# Altium integrated library Linear Technology Power Management Supercapacitor Chargers.IntLib: 96 symbols (part 6 of 8)
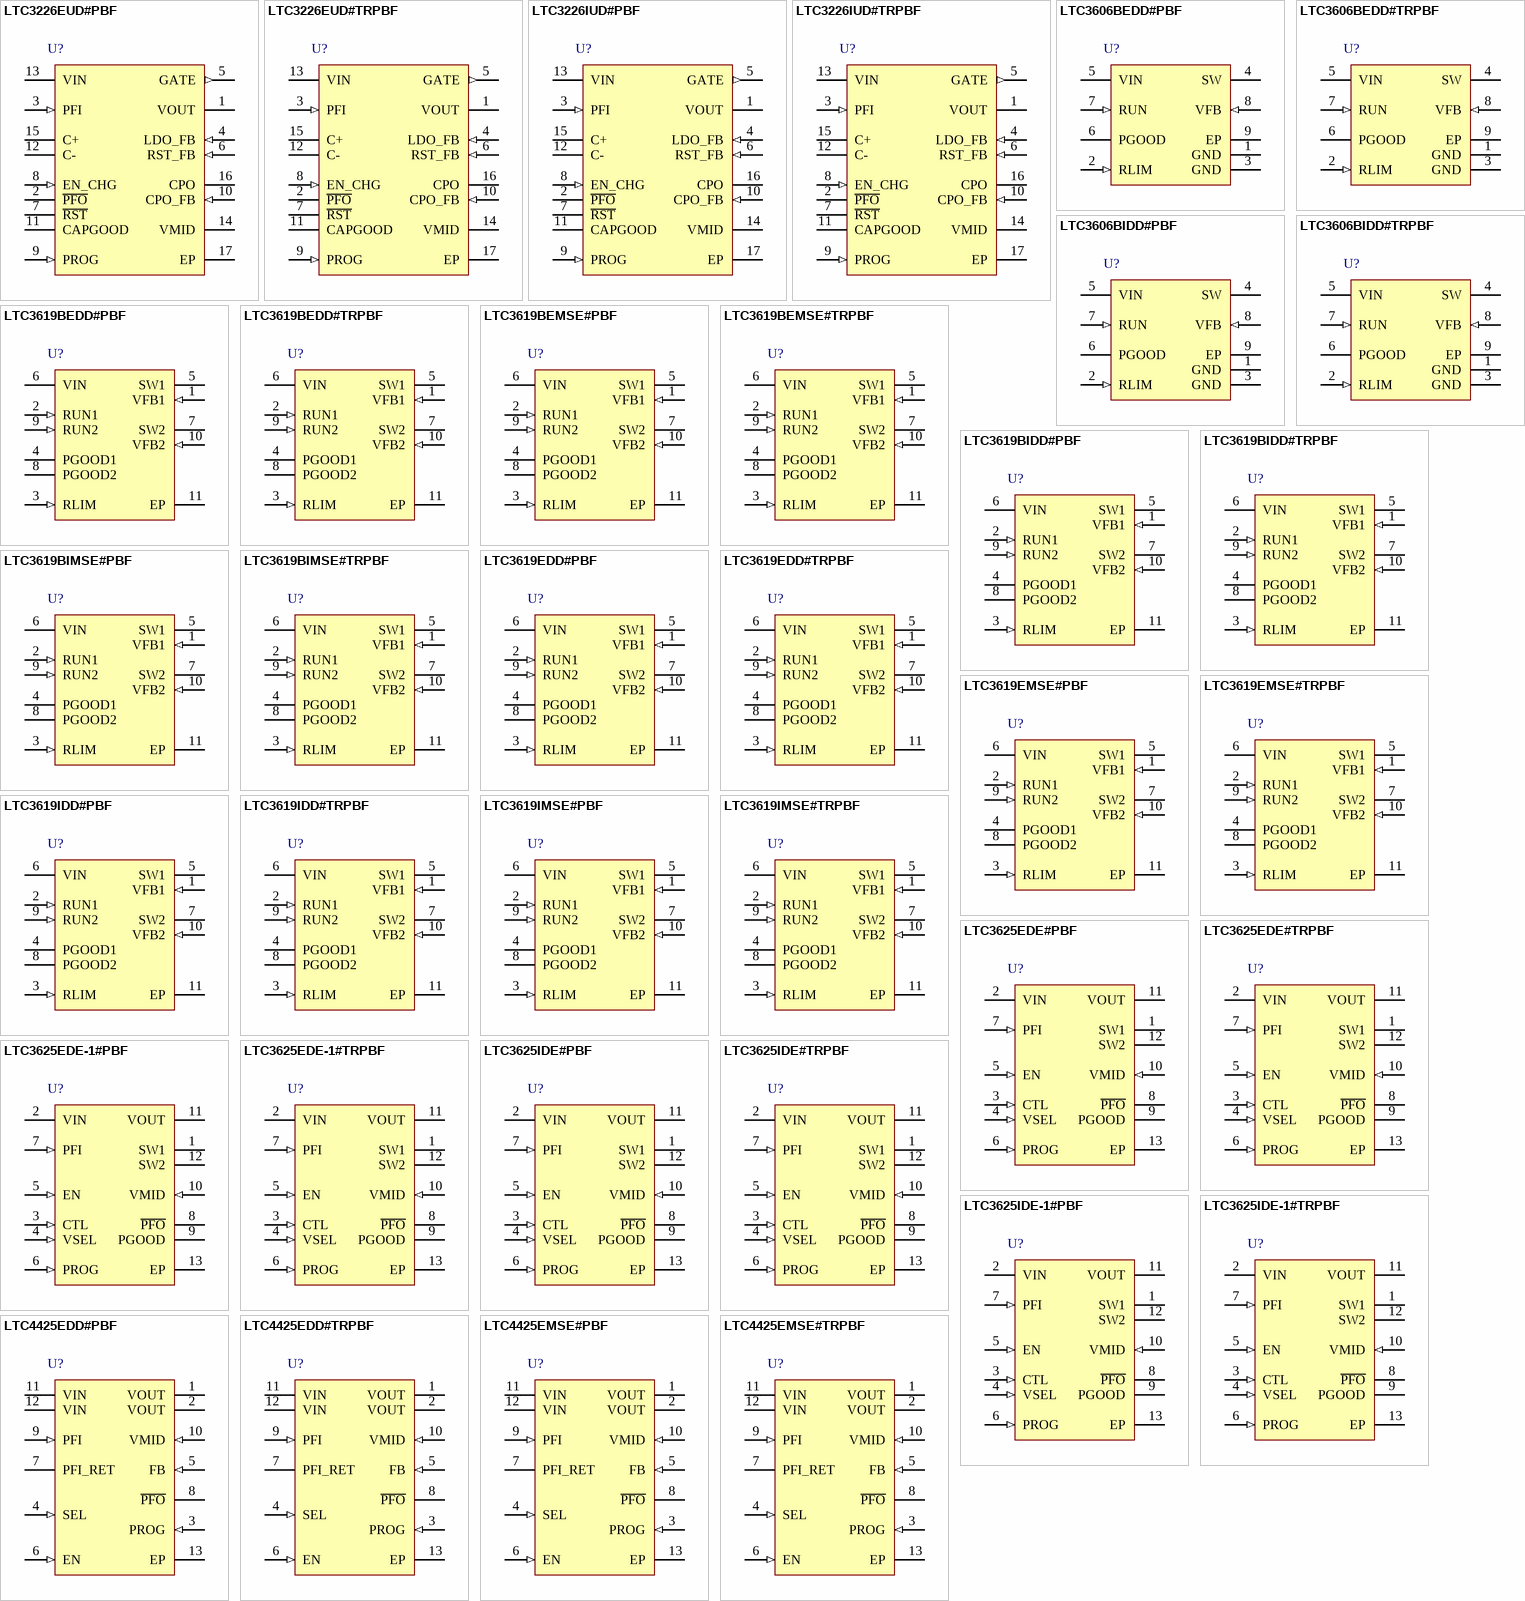
[diagram p8: symbols LTC3226EUD#PBF to LTC4425EMSE#TRPBF]

## LTC3606BIDD#TRPBF
designator U?
800 mA Synchronous Step-Down DC/DC with Average Input Current Limit, 2.5 to 5.5 V Vin, 5 V Vout MAX, 8-pin SON (DD-8), -40 to 125 degC, Pb-Free, Tape and Reel; Manufacturer: Linear Technology; PartNumber: LTC3606BIDD#TRPBF; Output Current(A): 0.8; Topology: Buck; DatasheetVersion: Rev. B; PackageVersion: Jun-10; PackageReference: DD-8; PackageDescription: 8-Pin Plastic DFN, Body 3 x 3 mm, Pitch 0.5 mm; Supplier 1: Digi-Key; Supplier Part Number 1: LTC3606BIDD#TRPBF-ND; Packing: Tape and Reel; RoHS: TRUE; Mounting Technology: Surface Mount; Code_JEDEC: MO-229; ComponentLink1Description: Manufacturer URL; ComponentLink1URL: http://www.linear.com/; ComponentLink2Description: Datasheet; ComponentLink2URL: http://cds.linear.com/docs/en/datasheet/3606bfb.pdf; ComponentLink3Description: Package Specification; ComponentLink3URL: http://cds.linear.com/docs/en/packaging/DFN_8_05-08-1698.pdf
footprint LT-DD-8_V (SON, 8-Leads, Body 3x3mm, Pitch 0.5mm, Thermal Pad 1.65x2.38 mm)
pins: 1 GND (power) "Ground. Connect to the (-) terminal of COUT, and the (-) terminal of CIN. The Exposed Pad must be soldered to PCB.", 2 RLIM (in) "Average Input Current Limit Program Pin. Place a resistor and capacitor in parallel from this pin to ground.", 3 GND (power) "Ground. Connect to the (-) terminal of COUT, and the (-) terminal of CIN. The Exposed Pad must be soldered to PCB.", 4 SW (power) "Regulator Switch Node Connection to the Inductor. This pin swings from VIN to GND.", 5 VIN (power) "Main Power Supply. Must be closely decoupled to GND.", 6 PGOOD (oc) "Open-Drain Logic Output. PGOOD is pulled to ground if the voltage on the VFB pin is not within power good threshold.", 7 RUN (in) "Regulator Enable. Forcing this pin to VIN enables regulator, while forcing it to GND causes regulator to shut down.", 8 VFB (in) "Regulator Output Feedback. Receives the feedback voltage from the external resistive divider across the regulator output. Nominal voltage for this pin is 0.6V.", 9 EP (power) "Ground. Connect to the (-) terminal of COUT, and the (-) terminal of CIN. The Exposed Pad must be soldered to PCB."

## LTC3619BEDD#PBF
designator U?
400 mA / 800 mA Synchronous Step-Down DC/DC with Average Input Current Limit, 2.5 to 5.5 V Vin, 5 V Vout MAX, 10-pin SON (DD-10), -40 to 125 degC, Pb-Free; Manufacturer: Linear Technology; PartNumber: LTC3619BEDD#PBF; Output Current(A): 0.4 or 0.8; Topology: Buck; DatasheetVersion: Rev. B; PackageVersion: Rev. C, 06/2010; PackageReference: DD-10; PackageDescription: 10-Pin Plastic DFN, Body 3 x 3 mm, Pitch 0.5 mm; Supplier 1: Digi-Key; Supplier Part Number 1: LTC3619BEDD#PBF-ND; Supplier 2: Farnell; Supplier Part Number 2: 1839256; Supplier 3: Newark; Supplier Part Number 3: 51R1509; RoHS: TRUE; Mounting Technology: Surface Mount; Code_JEDEC: MO-229; ComponentLink1Description: Manufacturer URL; ComponentLink1URL: http://www.linear.com/; ComponentLink2Description: Datasheet; ComponentLink2URL: http://cds.linear.com/docs/en/datasheet/3619bfb.pdf; ComponentLink3Description: Package Specification; ComponentLink3URL: http://cds.linear.com/docs/en/packaging/DFN_10_05-08-1699.pdf
footprint LT-DD-10_V (SON, 10-Leads, Body 3x3mm, Pitch 0.5mm, Thermal Pad 2.38x1.65mm)
pins: 1 VFB1 (in) "Regulator 1 Output Feedback. Receives the feedback voltage from the external resistive divider across the regulator 1 output. Nominal voltage for this pin is 0.6V.", 2 RUN1 (in) "Regulator 1 Enable. Forcing this pin to VIN enables regulator 1, while forcing it to GND causes regulator 1 to shut down.", 3 RLIM (in) "Average Input Current Limit Program Pin. Place a resistor and capacitor in parallel from this pin to ground.", 4 PGOOD1 (oc) "Open-Drain Logic Output. PGOOD1 is pulled to ground the voltage on the VFB1 pin is not within power good threshold.", 5 SW1 (power) "Regulator 1 Switch Node Connection to the Inductor. This pin swings from VIN to GND.", 6 VIN (power) "Main Power Supply. Must be closely de-coupled to GND.", 7 SW2 (power) "Regulator 2 Switch Node Connection to the Inductor. This pin swings from VIN to GND.", 8 PGOOD2 (oc) "Open-Drain Logic Output. PGOOD2 is pulled to ground the voltage on the VFB2 pin is not within power good threshold.", 9 RUN2 (in) "Regulator 2 Enable. Forcing this pin to VIN enables regulator 2, while forcing it to GND causes regulator 2 to shut down.", 10 VFB2 (in) "Regulator 2 Output Feedback. Receives the feedback voltage from the external resistive divider across the regulator 2 output. Nominal voltage for this pin is 0.6V.", 11 EP (power) "Ground. Bottom Exposed Pad. Connect to the (-) terminal of COUT, and the (-) terminal of CIN. The Exposed Pad must be soldered to PCB."

## LTC3619BEDD#TRPBF
designator U?
400 mA / 800 mA Synchronous Step-Down DC/DC with Average Input Current Limit, 2.5 to 5.5 V Vin, 5 V Vout MAX, 10-pin SON (DD-10), -40 to 125 degC, Pb-Free, Tape and Reel; Manufacturer: Linear Technology; PartNumber: LTC3619BEDD#TRPBF; Output Current(A): 0.4 or 0.8; Topology: Buck; DatasheetVersion: Rev. B; PackageVersion: Rev. C, 06/2010; PackageReference: DD-10; PackageDescription: 10-Pin Plastic DFN, Body 3 x 3 mm, Pitch 0.5 mm; Supplier 1: Digi-Key; Supplier Part Number 1: LTC3619BEDD#TRPBF-ND; Packing: Tape and Reel; RoHS: TRUE; Mounting Technology: Surface Mount; Code_JEDEC: MO-229; ComponentLink1Description: Manufacturer URL; ComponentLink1URL: http://www.linear.com/; ComponentLink2Description: Datasheet; ComponentLink2URL: http://cds.linear.com/docs/en/datasheet/3619bfb.pdf; ComponentLink3Description: Package Specification; ComponentLink3URL: http://cds.linear.com/docs/en/packaging/DFN_10_05-08-1699.pdf
footprint LT-DD-10_V (SON, 10-Leads, Body 3x3mm, Pitch 0.5mm, Thermal Pad 2.38x1.65mm)
pins: 1 VFB1 (in) "Regulator 1 Output Feedback. Receives the feedback voltage from the external resistive divider across the regulator 1 output. Nominal voltage for this pin is 0.6V.", 2 RUN1 (in) "Regulator 1 Enable. Forcing this pin to VIN enables regulator 1, while forcing it to GND causes regulator 1 to shut down.", 3 RLIM (in) "Average Input Current Limit Program Pin. Place a resistor and capacitor in parallel from this pin to ground.", 4 PGOOD1 (oc) "Open-Drain Logic Output. PGOOD1 is pulled to ground the voltage on the VFB1 pin is not within power good threshold.", 5 SW1 (power) "Regulator 1 Switch Node Connection to the Inductor. This pin swings from VIN to GND.", 6 VIN (power) "Main Power Supply. Must be closely de-coupled to GND.", 7 SW2 (power) "Regulator 2 Switch Node Connection to the Inductor. This pin swings from VIN to GND.", 8 PGOOD2 (oc) "Open-Drain Logic Output. PGOOD2 is pulled to ground the voltage on the VFB2 pin is not within power good threshold.", 9 RUN2 (in) "Regulator 2 Enable. Forcing this pin to VIN enables regulator 2, while forcing it to GND causes regulator 2 to shut down.", 10 VFB2 (in) "Regulator 2 Output Feedback. Receives the feedback voltage from the external resistive divider across the regulator 2 output. Nominal voltage for this pin is 0.6V.", 11 EP (power) "Ground. Bottom Exposed Pad. Connect to the (-) terminal of COUT, and the (-) terminal of CIN. The Exposed Pad must be soldered to PCB."

## LTC3619BEMSE#PBF
designator U?
400 mA / 800 mA Synchronous Step-Down DC/DC with Average Input Current Limit, 2.5 to 5.5 V Vin, 5 V Vout MAX, 10-pin SOP (MSE-10-EDP), -40 to 125 degC, Pb-Free; Manufacturer: Linear Technology; PartNumber: LTC3619BEMSE#PBF; Output Current(A): 0.4 or 0.8; Topology: Buck; DatasheetVersion: Rev. B; PackageVersion: Rev. I, 05/2013; PackageReference: MSE-10; PackageDescription: 10-Pin Plastic MSOP, Exposed Die Pad, Body 3 x 3 mm, Pitch 0.5 mm; Supplier 1: Digi-Key; Supplier Part Number 1: LTC3619BEMSE#PBF-ND; RoHS: TRUE; Mounting Technology: Surface Mount; ComponentLink1Description: Manufacturer URL; ComponentLink1URL: http://www.linear.com/; ComponentLink2Description: Datasheet; ComponentLink2URL: http://cds.linear.com/docs/en/datasheet/3619bfb.pdf; ComponentLink3Description: Package Specification; ComponentLink3URL: http://cds.linear.com/docs/en/packaging/05081664_I_MSE.pdf
footprint LT-MSE-10-EDP_N (SOP, 10-Leads, Body 3.1x3.1mm, Pitch 0.5mm, Thermal Pad 1.88x1.68mm, IPC Medium Density)
footprint LT-MSE-10-EDP_L (SOP, 10-Leads, Body 3.1x3.1mm, Pitch 0.5mm, Thermal Pad 1.88x1.68mm, IPC High Density)
footprint LT-MSE-10-EDP_M (SOP, 10-Leads, Body 3.1x3.1mm, Pitch 0.5mm, Thermal Pad 1.88x1.68mm, IPC Low Density)
pins: 1 VFB1 (in) "Regulator 1 Output Feedback. Receives the feedback voltage from the external resistive divider across the regulator 1 output. Nominal voltage for this pin is 0.6V.", 2 RUN1 (in) "Regulator 1 Enable. Forcing this pin to VIN enables regulator 1, while forcing it to GND causes regulator 1 to shut down.", 3 RLIM (in) "Average Input Current Limit Program Pin. Place a resistor and capacitor in parallel from this pin to ground.", 4 PGOOD1 (oc) "Open-Drain Logic Output. PGOOD1 is pulled to ground the voltage on the VFB1 pin is not within power good threshold.", 5 SW1 (power) "Regulator 1 Switch Node Connection to the Inductor. This pin swings from VIN to GND.", 6 VIN (power) "Main Power Supply. Must be closely de-coupled to GND.", 7 SW2 (power) "Regulator 2 Switch Node Connection to the Inductor. This pin swings from VIN to GND.", 8 PGOOD2 (oc) "Open-Drain Logic Output. PGOOD2 is pulled to ground the voltage on the VFB2 pin is not within power good threshold.", 9 RUN2 (in) "Regulator 2 Enable. Forcing this pin to VIN enables regulator 2, while forcing it to GND causes regulator 2 to shut down.", 10 VFB2 (in) "Regulator 2 Output Feedback. Receives the feedback voltage from the external resistive divider across the regulator 2 output. Nominal voltage for this pin is 0.6V.", 11 EP (power) "Ground. Bottom Exposed Pad. Connect to the (-) terminal of COUT, and the (-) terminal of CIN. The Exposed Pad must be soldered to PCB."

## LTC3619BEMSE#TRPBF
designator U?
400 mA / 800 mA Synchronous Step-Down DC/DC with Average Input Current Limit, 2.5 to 5.5 V Vin, 5 V Vout MAX, 10-pin SOP (MSE-10-EDP), -40 to 125 degC, Pb-Free, Tape and Reel; Manufacturer: Linear Technology; PartNumber: LTC3619BEMSE#TRPBF; Output Current(A): 0.4 or 0.8; Topology: Buck; DatasheetVersion: Rev. B; PackageVersion: Rev. I, 05/2013; PackageReference: MSE-10; PackageDescription: 10-Pin Plastic MSOP, Exposed Die Pad, Body 3 x 3 mm, Pitch 0.5 mm; Supplier 1: Digi-Key; Supplier Part Number 1: LTC3619BEMSE#TRPBF-ND; Packing: Tape and Reel; RoHS: TRUE; Mounting Technology: Surface Mount; ComponentLink1Description: Manufacturer URL; ComponentLink1URL: http://www.linear.com/; ComponentLink2Description: Datasheet; ComponentLink2URL: http://cds.linear.com/docs/en/datasheet/3619bfb.pdf; ComponentLink3Description: Package Specification; ComponentLink3URL: http://cds.linear.com/docs/en/packaging/05081664_I_MSE.pdf
footprint LT-MSE-10-EDP_N (SOP, 10-Leads, Body 3.1x3.1mm, Pitch 0.5mm, Thermal Pad 1.88x1.68mm, IPC Medium Density)
footprint LT-MSE-10-EDP_L (SOP, 10-Leads, Body 3.1x3.1mm, Pitch 0.5mm, Thermal Pad 1.88x1.68mm, IPC High Density)
footprint LT-MSE-10-EDP_M (SOP, 10-Leads, Body 3.1x3.1mm, Pitch 0.5mm, Thermal Pad 1.88x1.68mm, IPC Low Density)
pins: 1 VFB1 (in) "Regulator 1 Output Feedback. Receives the feedback voltage from the external resistive divider across the regulator 1 output. Nominal voltage for this pin is 0.6V.", 2 RUN1 (in) "Regulator 1 Enable. Forcing this pin to VIN enables regulator 1, while forcing it to GND causes regulator 1 to shut down.", 3 RLIM (in) "Average Input Current Limit Program Pin. Place a resistor and capacitor in parallel from this pin to ground.", 4 PGOOD1 (oc) "Open-Drain Logic Output. PGOOD1 is pulled to ground the voltage on the VFB1 pin is not within power good threshold.", 5 SW1 (power) "Regulator 1 Switch Node Connection to the Inductor. This pin swings from VIN to GND.", 6 VIN (power) "Main Power Supply. Must be closely de-coupled to GND.", 7 SW2 (power) "Regulator 2 Switch Node Connection to the Inductor. This pin swings from VIN to GND.", 8 PGOOD2 (oc) "Open-Drain Logic Output. PGOOD2 is pulled to ground the voltage on the VFB2 pin is not within power good threshold.", 9 RUN2 (in) "Regulator 2 Enable. Forcing this pin to VIN enables regulator 2, while forcing it to GND causes regulator 2 to shut down.", 10 VFB2 (in) "Regulator 2 Output Feedback. Receives the feedback voltage from the external resistive divider across the regulator 2 output. Nominal voltage for this pin is 0.6V.", 11 EP (power) "Ground. Bottom Exposed Pad. Connect to the (-) terminal of COUT, and the (-) terminal of CIN. The Exposed Pad must be soldered to PCB."

## LTC3619BIDD#PBF
designator U?
400 mA / 800 mA Synchronous Step-Down DC/DC with Average Input Current Limit, 2.5 to 5.5 V Vin, 5 V Vout MAX, 10-pin SON (DD-10), -40 to 125 degC, Pb-Free; Manufacturer: Linear Technology; PartNumber: LTC3619BIDD#PBF; Output Current(A): 0.4 or 0.8; Topology: Buck; DatasheetVersion: Rev. B; PackageVersion: Rev. C, 06/2010; PackageReference: DD-10; PackageDescription: 10-Pin Plastic DFN, Body 3 x 3 mm, Pitch 0.5 mm; Supplier 1: Digi-Key; Supplier Part Number 1: LTC3619BIDD#PBF-ND; RoHS: TRUE; Mounting Technology: Surface Mount; Code_JEDEC: MO-229; ComponentLink1Description: Manufacturer URL; ComponentLink1URL: http://www.linear.com/; ComponentLink2Description: Datasheet; ComponentLink2URL: http://cds.linear.com/docs/en/datasheet/3619bfb.pdf; ComponentLink3Description: Package Specification; ComponentLink3URL: http://cds.linear.com/docs/en/packaging/DFN_10_05-08-1699.pdf
footprint LT-DD-10_V (SON, 10-Leads, Body 3x3mm, Pitch 0.5mm, Thermal Pad 2.38x1.65mm)
pins: 1 VFB1 (in) "Regulator 1 Output Feedback. Receives the feedback voltage from the external resistive divider across the regulator 1 output. Nominal voltage for this pin is 0.6V.", 2 RUN1 (in) "Regulator 1 Enable. Forcing this pin to VIN enables regulator 1, while forcing it to GND causes regulator 1 to shut down.", 3 RLIM (in) "Average Input Current Limit Program Pin. Place a resistor and capacitor in parallel from this pin to ground.", 4 PGOOD1 (oc) "Open-Drain Logic Output. PGOOD1 is pulled to ground the voltage on the VFB1 pin is not within power good threshold.", 5 SW1 (power) "Regulator 1 Switch Node Connection to the Inductor. This pin swings from VIN to GND.", 6 VIN (power) "Main Power Supply. Must be closely de-coupled to GND.", 7 SW2 (power) "Regulator 2 Switch Node Connection to the Inductor. This pin swings from VIN to GND.", 8 PGOOD2 (oc) "Open-Drain Logic Output. PGOOD2 is pulled to ground the voltage on the VFB2 pin is not within power good threshold.", 9 RUN2 (in) "Regulator 2 Enable. Forcing this pin to VIN enables regulator 2, while forcing it to GND causes regulator 2 to shut down.", 10 VFB2 (in) "Regulator 2 Output Feedback. Receives the feedback voltage from the external resistive divider across the regulator 2 output. Nominal voltage for this pin is 0.6V.", 11 EP (power) "Ground. Bottom Exposed Pad. Connect to the (-) terminal of COUT, and the (-) terminal of CIN. The Exposed Pad must be soldered to PCB."

## LTC3619BIDD#TRPBF
designator U?
400 mA / 800 mA Synchronous Step-Down DC/DC with Average Input Current Limit, 2.5 to 5.5 V Vin, 5 V Vout MAX, 10-pin SON (DD-10), -40 to 125 degC, Pb-Free, Tape and Reel; Manufacturer: Linear Technology; PartNumber: LTC3619BIDD#TRPBF; Output Current(A): 0.4 or 0.8; Topology: Buck; DatasheetVersion: Rev. B; PackageVersion: Rev. C, 06/2010; PackageReference: DD-10; PackageDescription: 10-Pin Plastic DFN, Body 3 x 3 mm, Pitch 0.5 mm; Supplier 1: Digi-Key; Supplier Part Number 1: LTC3619BIDD#TRPBF-ND; Packing: Tape and Reel; RoHS: TRUE; Mounting Technology: Surface Mount; Code_JEDEC: MO-229; ComponentLink1Description: Manufacturer URL; ComponentLink1URL: http://www.linear.com/; ComponentLink2Description: Datasheet; ComponentLink2URL: http://cds.linear.com/docs/en/datasheet/3619bfb.pdf; ComponentLink3Description: Package Specification; ComponentLink3URL: http://cds.linear.com/docs/en/packaging/DFN_10_05-08-1699.pdf
footprint LT-DD-10_V (SON, 10-Leads, Body 3x3mm, Pitch 0.5mm, Thermal Pad 2.38x1.65mm)
pins: 1 VFB1 (in) "Regulator 1 Output Feedback. Receives the feedback voltage from the external resistive divider across the regulator 1 output. Nominal voltage for this pin is 0.6V.", 2 RUN1 (in) "Regulator 1 Enable. Forcing this pin to VIN enables regulator 1, while forcing it to GND causes regulator 1 to shut down.", 3 RLIM (in) "Average Input Current Limit Program Pin. Place a resistor and capacitor in parallel from this pin to ground.", 4 PGOOD1 (oc) "Open-Drain Logic Output. PGOOD1 is pulled to ground the voltage on the VFB1 pin is not within power good threshold.", 5 SW1 (power) "Regulator 1 Switch Node Connection to the Inductor. This pin swings from VIN to GND.", 6 VIN (power) "Main Power Supply. Must be closely de-coupled to GND.", 7 SW2 (power) "Regulator 2 Switch Node Connection to the Inductor. This pin swings from VIN to GND.", 8 PGOOD2 (oc) "Open-Drain Logic Output. PGOOD2 is pulled to ground the voltage on the VFB2 pin is not within power good threshold.", 9 RUN2 (in) "Regulator 2 Enable. Forcing this pin to VIN enables regulator 2, while forcing it to GND causes regulator 2 to shut down.", 10 VFB2 (in) "Regulator 2 Output Feedback. Receives the feedback voltage from the external resistive divider across the regulator 2 output. Nominal voltage for this pin is 0.6V.", 11 EP (power) "Ground. Bottom Exposed Pad. Connect to the (-) terminal of COUT, and the (-) terminal of CIN. The Exposed Pad must be soldered to PCB."

## LTC3619BIMSE#PBF
designator U?
400 mA / 800 mA Synchronous Step-Down DC/DC with Average Input Current Limit, 2.5 to 5.5 V Vin, 5 V Vout MAX, 10-pin SOP (MSE-10-EDP), -40 to 125 degC, Pb-Free; Manufacturer: Linear Technology; PartNumber: LTC3619BIMSE#PBF; Output Current(A): 0.4 or 0.8; Topology: Buck; DatasheetVersion: Rev. B; PackageVersion: Rev. I, 05/2013; PackageReference: MSE-10; PackageDescription: 10-Pin Plastic MSOP, Exposed Die Pad, Body 3 x 3 mm, Pitch 0.5 mm; Supplier 1: Digi-Key; Supplier Part Number 1: LTC3619BIMSE#PBF-ND; RoHS: TRUE; Mounting Technology: Surface Mount; ComponentLink1Description: Manufacturer URL; ComponentLink1URL: http://www.linear.com/; ComponentLink2Description: Datasheet; ComponentLink2URL: http://cds.linear.com/docs/en/datasheet/3619bfb.pdf; ComponentLink3Description: Package Specification; ComponentLink3URL: http://cds.linear.com/docs/en/packaging/05081664_I_MSE.pdf
footprint LT-MSE-10-EDP_N (SOP, 10-Leads, Body 3.1x3.1mm, Pitch 0.5mm, Thermal Pad 1.88x1.68mm, IPC Medium Density)
footprint LT-MSE-10-EDP_L (SOP, 10-Leads, Body 3.1x3.1mm, Pitch 0.5mm, Thermal Pad 1.88x1.68mm, IPC High Density)
footprint LT-MSE-10-EDP_M (SOP, 10-Leads, Body 3.1x3.1mm, Pitch 0.5mm, Thermal Pad 1.88x1.68mm, IPC Low Density)
pins: 1 VFB1 (in) "Regulator 1 Output Feedback. Receives the feedback voltage from the external resistive divider across the regulator 1 output. Nominal voltage for this pin is 0.6V.", 2 RUN1 (in) "Regulator 1 Enable. Forcing this pin to VIN enables regulator 1, while forcing it to GND causes regulator 1 to shut down.", 3 RLIM (in) "Average Input Current Limit Program Pin. Place a resistor and capacitor in parallel from this pin to ground.", 4 PGOOD1 (oc) "Open-Drain Logic Output. PGOOD1 is pulled to ground the voltage on the VFB1 pin is not within power good threshold.", 5 SW1 (power) "Regulator 1 Switch Node Connection to the Inductor. This pin swings from VIN to GND.", 6 VIN (power) "Main Power Supply. Must be closely de-coupled to GND.", 7 SW2 (power) "Regulator 2 Switch Node Connection to the Inductor. This pin swings from VIN to GND.", 8 PGOOD2 (oc) "Open-Drain Logic Output. PGOOD2 is pulled to ground the voltage on the VFB2 pin is not within power good threshold.", 9 RUN2 (in) "Regulator 2 Enable. Forcing this pin to VIN enables regulator 2, while forcing it to GND causes regulator 2 to shut down.", 10 VFB2 (in) "Regulator 2 Output Feedback. Receives the feedback voltage from the external resistive divider across the regulator 2 output. Nominal voltage for this pin is 0.6V.", 11 EP (power) "Ground. Bottom Exposed Pad. Connect to the (-) terminal of COUT, and the (-) terminal of CIN. The Exposed Pad must be soldered to PCB."

## LTC3619BIMSE#TRPBF
designator U?
400 mA / 800 mA Synchronous Step-Down DC/DC with Average Input Current Limit, 2.5 to 5.5 V Vin, 5 V Vout MAX, 10-pin SOP (MSE-10-EDP), -40 to 125 degC, Pb-Free, Tape and Reel; Manufacturer: Linear Technology; PartNumber: LTC3619BIMSE#TRPBF; Output Current(A): 0.4 or 0.8; Topology: Buck; DatasheetVersion: Rev. B; PackageVersion: Rev. I, 05/2013; PackageReference: MSE-10; PackageDescription: 10-Pin Plastic MSOP, Exposed Die Pad, Body 3 x 3 mm, Pitch 0.5 mm; Supplier 1: Digi-Key; Supplier Part Number 1: LTC3619BIMSE#TRPBF-ND; Packing: Tape and Reel; RoHS: TRUE; Mounting Technology: Surface Mount; ComponentLink1Description: Manufacturer URL; ComponentLink1URL: http://www.linear.com/; ComponentLink2Description: Datasheet; ComponentLink2URL: http://cds.linear.com/docs/en/datasheet/3619bfb.pdf; ComponentLink3Description: Package Specification; ComponentLink3URL: http://cds.linear.com/docs/en/packaging/05081664_I_MSE.pdf
footprint LT-MSE-10-EDP_N (SOP, 10-Leads, Body 3.1x3.1mm, Pitch 0.5mm, Thermal Pad 1.88x1.68mm, IPC Medium Density)
footprint LT-MSE-10-EDP_L (SOP, 10-Leads, Body 3.1x3.1mm, Pitch 0.5mm, Thermal Pad 1.88x1.68mm, IPC High Density)
footprint LT-MSE-10-EDP_M (SOP, 10-Leads, Body 3.1x3.1mm, Pitch 0.5mm, Thermal Pad 1.88x1.68mm, IPC Low Density)
pins: 1 VFB1 (in) "Regulator 1 Output Feedback. Receives the feedback voltage from the external resistive divider across the regulator 1 output. Nominal voltage for this pin is 0.6V.", 2 RUN1 (in) "Regulator 1 Enable. Forcing this pin to VIN enables regulator 1, while forcing it to GND causes regulator 1 to shut down.", 3 RLIM (in) "Average Input Current Limit Program Pin. Place a resistor and capacitor in parallel from this pin to ground.", 4 PGOOD1 (oc) "Open-Drain Logic Output. PGOOD1 is pulled to ground the voltage on the VFB1 pin is not within power good threshold.", 5 SW1 (power) "Regulator 1 Switch Node Connection to the Inductor. This pin swings from VIN to GND.", 6 VIN (power) "Main Power Supply. Must be closely de-coupled to GND.", 7 SW2 (power) "Regulator 2 Switch Node Connection to the Inductor. This pin swings from VIN to GND.", 8 PGOOD2 (oc) "Open-Drain Logic Output. PGOOD2 is pulled to ground the voltage on the VFB2 pin is not within power good threshold.", 9 RUN2 (in) "Regulator 2 Enable. Forcing this pin to VIN enables regulator 2, while forcing it to GND causes regulator 2 to shut down.", 10 VFB2 (in) "Regulator 2 Output Feedback. Receives the feedback voltage from the external resistive divider across the regulator 2 output. Nominal voltage for this pin is 0.6V.", 11 EP (power) "Ground. Bottom Exposed Pad. Connect to the (-) terminal of COUT, and the (-) terminal of CIN. The Exposed Pad must be soldered to PCB."

## LTC3619EDD#PBF
designator U?
400 mA / 800 mA Synchronous Step-Down DC/DC with Average Input Current Limit, 2.5 to 5.5 V Vin, 5 V Vout MAX, 10-pin SON (DD-10), -40 to 85 degC, Pb-Free; Manufacturer: Linear Technology; PartNumber: LTC3619EDD#PBF; Output Current(A): 0.4 or 0.8; Topology: Buck; DatasheetVersion: Rev. A; PackageVersion: Rev. C, 06/2010; PackageReference: DD-10; PackageDescription: 10-Pin Plastic DFN, Body 3 x 3 mm, Pitch 0.5 mm; Supplier 1: Digi-Key; Supplier Part Number 1: LTC3619EDD#PBF-ND; Supplier 2: Newark; Supplier Part Number 2: 51R1510; RoHS: TRUE; Mounting Technology: Surface Mount; Code_JEDEC: MO-229; ComponentLink1Description: Manufacturer URL; ComponentLink1URL: http://www.linear.com/; ComponentLink2Description: Datasheet; ComponentLink2URL: http://cds.linear.com/docs/en/datasheet/3619fa.pdf; ComponentLink3Description: Package Specification; ComponentLink3URL: http://cds.linear.com/docs/en/packaging/DFN_10_05-08-1699.pdf
footprint LT-DD-10_V (SON, 10-Leads, Body 3x3mm, Pitch 0.5mm, Thermal Pad 2.38x1.65mm)
pins: 1 VFB1 (in) "Regulator 1 Output Feedback. Receives the feedback voltage from the external resistive divider across the regulator 1 output. Nominal voltage for this pin is 0.6V.", 2 RUN1 (in) "Regulator 1 Enable. Forcing this pin to VIN enables regulator 1, while forcing it to GND causes regulator 1 to shut down.", 3 RLIM (in) "Average Input Current Limit Program Pin. Place a resistor and capacitor in parallel from this pin to ground.", 4 PGOOD1 (oc) "Open-Drain Logic Output. PGOOD1 is pulled to ground the voltage on the VFB1 pin is not within power good threshold.", 5 SW1 (power) "Regulator 1 Switch Node Connection to the Inductor. This pin swings from VIN to GND.", 6 VIN (power) "Main Power Supply. Must be closely de-coupled to GND.", 7 SW2 (power) "Regulator 2 Switch Node Connection to the Inductor. This pin swings from VIN to GND.", 8 PGOOD2 (oc) "Open-Drain Logic Output. PGOOD2 is pulled to ground the voltage on the VFB2 pin is not within power good threshold.", 9 RUN2 (in) "Regulator 2 Enable. Forcing this pin to VIN enables regulator 2, while forcing it to GND causes regulator 2 to shut down.", 10 VFB2 (in) "Regulator 2 Output Feedback. Receives the feedback voltage from the external resistive divider across the regulator 2 output. Nominal voltage for this pin is 0.6V.", 11 EP (power) "Ground. Bottom Exposed Pad. Connect to the (-) terminal of COUT, and the (-) terminal of CIN. The Exposed Pad must be soldered to PCB."

## LTC3619EDD#TRPBF
designator U?
400 mA / 800 mA Synchronous Step-Down DC/DC with Average Input Current Limit, 2.5 to 5.5 V Vin, 5 V Vout MAX, 10-pin SON (DD-10), -40 to 85 degC, Pb-Free, Tape and Reel; Manufacturer: Linear Technology; PartNumber: LTC3619EDD#TRPBF; Topology: Buck; DatasheetVersion: Rev. A; PackageVersion: Rev. C, 06/2010; PackageReference: DD-10; PackageDescription: 10-Pin Plastic DFN, Body 3 x 3 mm, Pitch 0.5 mm; Supplier 1: Digi-Key; Supplier Part Number 1: LTC3619EDD#TRPBF-ND; Packing: Tape and Reel; RoHS: TRUE; Mounting Technology: Surface Mount; Code_JEDEC: MO-229; ComponentLink1Description: Manufacturer URL; ComponentLink1URL: http://www.linear.com/; ComponentLink2Description: Datasheet; ComponentLink2URL: http://cds.linear.com/docs/en/datasheet/3619fa.pdf; ComponentLink3Description: Package Specification; ComponentLink3URL: http://cds.linear.com/docs/en/packaging/DFN_10_05-08-1699.pdf
footprint LT-DD-10_V (SON, 10-Leads, Body 3x3mm, Pitch 0.5mm, Thermal Pad 2.38x1.65mm)
pins: 1 VFB1 (in) "Regulator 1 Output Feedback. Receives the feedback voltage from the external resistive divider across the regulator 1 output. Nominal voltage for this pin is 0.6V.", 2 RUN1 (in) "Regulator 1 Enable. Forcing this pin to VIN enables regulator 1, while forcing it to GND causes regulator 1 to shut down.", 3 RLIM (in) "Average Input Current Limit Program Pin. Place a resistor and capacitor in parallel from this pin to ground.", 4 PGOOD1 (oc) "Open-Drain Logic Output. PGOOD1 is pulled to ground the voltage on the VFB1 pin is not within power good threshold.", 5 SW1 (power) "Regulator 1 Switch Node Connection to the Inductor. This pin swings from VIN to GND.", 6 VIN (power) "Main Power Supply. Must be closely de-coupled to GND.", 7 SW2 (power) "Regulator 2 Switch Node Connection to the Inductor. This pin swings from VIN to GND.", 8 PGOOD2 (oc) "Open-Drain Logic Output. PGOOD2 is pulled to ground the voltage on the VFB2 pin is not within power good threshold.", 9 RUN2 (in) "Regulator 2 Enable. Forcing this pin to VIN enables regulator 2, while forcing it to GND causes regulator 2 to shut down.", 10 VFB2 (in) "Regulator 2 Output Feedback. Receives the feedback voltage from the external resistive divider across the regulator 2 output. Nominal voltage for this pin is 0.6V.", 11 EP (power) "Ground. Bottom Exposed Pad. Connect to the (-) terminal of COUT, and the (-) terminal of CIN. The Exposed Pad must be soldered to PCB."

## LTC3619EMSE#PBF
designator U?
400 mA / 800 mA Synchronous Step-Down DC/DC with Average Input Current Limit, 2.5 to 5.5 V Vin, 5 V Vout MAX, 10-pin SOP (MSE-10-EDP), -40 to 85 degC, Pb-Free; Manufacturer: Linear Technology; PartNumber: LTC3619EMSE#PBF; Output Current(A): 0.4 or 0.8; Topology: Buck; DatasheetVersion: Rev. A; PackageVersion: Rev. I, 05/2013; PackageReference: MSE-10; PackageDescription: 10-Pin Plastic MSOP, Exposed Die Pad, Body 3 x 3 mm, Pitch 0.5 mm; Supplier 1: Digi-Key; Supplier Part Number 1: LTC3619EMSE#PBF-ND; Supplier 2: Farnell; Supplier Part Number 2: 1839258; Supplier 3: Newark; Supplier Part Number 3: 51R1511; RoHS: TRUE; Mounting Technology: Surface Mount; ComponentLink1Description: Manufacturer URL; ComponentLink1URL: http://www.linear.com/; ComponentLink2Description: Datasheet; ComponentLink2URL: http://cds.linear.com/docs/en/datasheet/3619fa.pdf; ComponentLink3Description: Package Specification; ComponentLink3URL: http://cds.linear.com/docs/en/packaging/05081664_I_MSE.pdf
footprint LT-MSE-10-EDP_N (SOP, 10-Leads, Body 3.1x3.1mm, Pitch 0.5mm, Thermal Pad 1.88x1.68mm, IPC Medium Density)
footprint LT-MSE-10-EDP_L (SOP, 10-Leads, Body 3.1x3.1mm, Pitch 0.5mm, Thermal Pad 1.88x1.68mm, IPC High Density)
footprint LT-MSE-10-EDP_M (SOP, 10-Leads, Body 3.1x3.1mm, Pitch 0.5mm, Thermal Pad 1.88x1.68mm, IPC Low Density)
pins: 1 VFB1 (in) "Regulator 1 Output Feedback. Receives the feedback voltage from the external resistive divider across the regulator 1 output. Nominal voltage for this pin is 0.6V.", 2 RUN1 (in) "Regulator 1 Enable. Forcing this pin to VIN enables regulator 1, while forcing it to GND causes regulator 1 to shut down.", 3 RLIM (in) "Average Input Current Limit Program Pin. Place a resistor and capacitor in parallel from this pin to ground.", 4 PGOOD1 (oc) "Open-Drain Logic Output. PGOOD1 is pulled to ground the voltage on the VFB1 pin is not within power good threshold.", 5 SW1 (power) "Regulator 1 Switch Node Connection to the Inductor. This pin swings from VIN to GND.", 6 VIN (power) "Main Power Supply. Must be closely de-coupled to GND.", 7 SW2 (power) "Regulator 2 Switch Node Connection to the Inductor. This pin swings from VIN to GND.", 8 PGOOD2 (oc) "Open-Drain Logic Output. PGOOD2 is pulled to ground the voltage on the VFB2 pin is not within power good threshold.", 9 RUN2 (in) "Regulator 2 Enable. Forcing this pin to VIN enables regulator 2, while forcing it to GND causes regulator 2 to shut down.", 10 VFB2 (in) "Regulator 2 Output Feedback. Receives the feedback voltage from the external resistive divider across the regulator 2 output. Nominal voltage for this pin is 0.6V.", 11 EP (power) "Ground. Bottom Exposed Pad. Connect to the (-) terminal of COUT, and the (-) terminal of CIN. The Exposed Pad must be soldered to PCB."

## LTC3619EMSE#TRPBF
designator U?
400 mA / 800 mA Synchronous Step-Down DC/DC with Average Input Current Limit, 2.5 to 5.5 V Vin, 5 V Vout MAX, 10-pin SOP (MSE-10-EDP), -40 to 85 degC, Pb-Free, Tape and Reel; Manufacturer: Linear Technology; PartNumber: LTC3619EMSE#TRPBF; Topology: Buck; DatasheetVersion: Rev. A; PackageVersion: Rev. I, 05/2013; PackageReference: MSE-10; PackageDescription: 10-Pin Plastic MSOP, Exposed Die Pad, Body 3 x 3 mm, Pitch 0.5 mm; Supplier 1: Digi-Key; Supplier Part Number 1: LTC3619EMSE#TRPBF-ND; Packing: Tape and Reel; RoHS: TRUE; Mounting Technology: Surface Mount; ComponentLink1Description: Manufacturer URL; ComponentLink1URL: http://www.linear.com/; ComponentLink2Description: Datasheet; ComponentLink2URL: http://cds.linear.com/docs/en/datasheet/3619fa.pdf; ComponentLink3Description: Package Specification; ComponentLink3URL: http://cds.linear.com/docs/en/packaging/05081664_I_MSE.pdf
footprint LT-MSE-10-EDP_N (SOP, 10-Leads, Body 3.1x3.1mm, Pitch 0.5mm, Thermal Pad 1.88x1.68mm, IPC Medium Density)
footprint LT-MSE-10-EDP_L (SOP, 10-Leads, Body 3.1x3.1mm, Pitch 0.5mm, Thermal Pad 1.88x1.68mm, IPC High Density)
footprint LT-MSE-10-EDP_M (SOP, 10-Leads, Body 3.1x3.1mm, Pitch 0.5mm, Thermal Pad 1.88x1.68mm, IPC Low Density)
pins: 1 VFB1 (in) "Regulator 1 Output Feedback. Receives the feedback voltage from the external resistive divider across the regulator 1 output. Nominal voltage for this pin is 0.6V.", 2 RUN1 (in) "Regulator 1 Enable. Forcing this pin to VIN enables regulator 1, while forcing it to GND causes regulator 1 to shut down.", 3 RLIM (in) "Average Input Current Limit Program Pin. Place a resistor and capacitor in parallel from this pin to ground.", 4 PGOOD1 (oc) "Open-Drain Logic Output. PGOOD1 is pulled to ground the voltage on the VFB1 pin is not within power good threshold.", 5 SW1 (power) "Regulator 1 Switch Node Connection to the Inductor. This pin swings from VIN to GND.", 6 VIN (power) "Main Power Supply. Must be closely de-coupled to GND.", 7 SW2 (power) "Regulator 2 Switch Node Connection to the Inductor. This pin swings from VIN to GND.", 8 PGOOD2 (oc) "Open-Drain Logic Output. PGOOD2 is pulled to ground the voltage on the VFB2 pin is not within power good threshold.", 9 RUN2 (in) "Regulator 2 Enable. Forcing this pin to VIN enables regulator 2, while forcing it to GND causes regulator 2 to shut down.", 10 VFB2 (in) "Regulator 2 Output Feedback. Receives the feedback voltage from the external resistive divider across the regulator 2 output. Nominal voltage for this pin is 0.6V.", 11 EP (power) "Ground. Bottom Exposed Pad. Connect to the (-) terminal of COUT, and the (-) terminal of CIN. The Exposed Pad must be soldered to PCB."

## LTC3619IDD#PBF
designator U?
400 mA / 800 mA Synchronous Step-Down DC/DC with Average Input Current Limit, 2.5 to 5.5 V Vin, 5 V Vout MAX, 10-pin SON (DD-10), -40 to 125 degC, Pb-Free; Manufacturer: Linear Technology; PartNumber: LTC3619IDD#PBF; Output Current(A): 0.4 or 0.8; Topology: Buck; DatasheetVersion: Rev. A; PackageVersion: Rev. C, 06/2010; PackageReference: DD-10; PackageDescription: 10-Pin Plastic DFN, Body 3 x 3 mm, Pitch 0.5 mm; Supplier 1: Digi-Key; Supplier Part Number 1: LTC3619IDD#PBF-ND; RoHS: TRUE; Mounting Technology: Surface Mount; Code_JEDEC: MO-229; ComponentLink1Description: Manufacturer URL; ComponentLink1URL: http://www.linear.com/; ComponentLink2Description: Datasheet; ComponentLink2URL: http://cds.linear.com/docs/en/datasheet/3619fa.pdf; ComponentLink3Description: Package Specification; ComponentLink3URL: http://cds.linear.com/docs/en/packaging/DFN_10_05-08-1699.pdf
footprint LT-DD-10_V (SON, 10-Leads, Body 3x3mm, Pitch 0.5mm, Thermal Pad 2.38x1.65mm)
pins: 1 VFB1 (in) "Regulator 1 Output Feedback. Receives the feedback voltage from the external resistive divider across the regulator 1 output. Nominal voltage for this pin is 0.6V.", 2 RUN1 (in) "Regulator 1 Enable. Forcing this pin to VIN enables regulator 1, while forcing it to GND causes regulator 1 to shut down.", 3 RLIM (in) "Average Input Current Limit Program Pin. Place a resistor and capacitor in parallel from this pin to ground.", 4 PGOOD1 (oc) "Open-Drain Logic Output. PGOOD1 is pulled to ground the voltage on the VFB1 pin is not within power good threshold.", 5 SW1 (power) "Regulator 1 Switch Node Connection to the Inductor. This pin swings from VIN to GND.", 6 VIN (power) "Main Power Supply. Must be closely de-coupled to GND.", 7 SW2 (power) "Regulator 2 Switch Node Connection to the Inductor. This pin swings from VIN to GND.", 8 PGOOD2 (oc) "Open-Drain Logic Output. PGOOD2 is pulled to ground the voltage on the VFB2 pin is not within power good threshold.", 9 RUN2 (in) "Regulator 2 Enable. Forcing this pin to VIN enables regulator 2, while forcing it to GND causes regulator 2 to shut down.", 10 VFB2 (in) "Regulator 2 Output Feedback. Receives the feedback voltage from the external resistive divider across the regulator 2 output. Nominal voltage for this pin is 0.6V.", 11 EP (power) "Ground. Bottom Exposed Pad. Connect to the (-) terminal of COUT, and the (-) terminal of CIN. The Exposed Pad must be soldered to PCB."

## LTC3619IDD#TRPBF
designator U?
400 mA / 800 mA Synchronous Step-Down DC/DC with Average Input Current Limit, 2.5 to 5.5 V Vin, 5 V Vout MAX, 10-pin SON (DD-10), -40 to 125 degC, Pb-Free, Tape and Reel; Manufacturer: Linear Technology; PartNumber: LTC3619IDD#TRPBF; Output Current(A): 0.4 or 0.8; Topology: Buck; DatasheetVersion: Rev. A; PackageVersion: Rev. C, 06/2010; PackageReference: DD-10; PackageDescription: 10-Pin Plastic DFN, Body 3 x 3 mm, Pitch 0.5 mm; Supplier 1: Digi-Key; Supplier Part Number 1: LTC3619IDD#TRPBF-ND; Packing: Tape and Reel; RoHS: TRUE; Mounting Technology: Surface Mount; Code_JEDEC: MO-229; ComponentLink1Description: Manufacturer URL; ComponentLink1URL: http://www.linear.com/; ComponentLink2Description: Datasheet; ComponentLink2URL: http://cds.linear.com/docs/en/datasheet/3619fa.pdf; ComponentLink3Description: Package Specification; ComponentLink3URL: http://cds.linear.com/docs/en/packaging/DFN_10_05-08-1699.pdf
footprint LT-DD-10_V (SON, 10-Leads, Body 3x3mm, Pitch 0.5mm, Thermal Pad 2.38x1.65mm)
pins: 1 VFB1 (in) "Regulator 1 Output Feedback. Receives the feedback voltage from the external resistive divider across the regulator 1 output. Nominal voltage for this pin is 0.6V.", 2 RUN1 (in) "Regulator 1 Enable. Forcing this pin to VIN enables regulator 1, while forcing it to GND causes regulator 1 to shut down.", 3 RLIM (in) "Average Input Current Limit Program Pin. Place a resistor and capacitor in parallel from this pin to ground.", 4 PGOOD1 (oc) "Open-Drain Logic Output. PGOOD1 is pulled to ground the voltage on the VFB1 pin is not within power good threshold.", 5 SW1 (power) "Regulator 1 Switch Node Connection to the Inductor. This pin swings from VIN to GND.", 6 VIN (power) "Main Power Supply. Must be closely de-coupled to GND.", 7 SW2 (power) "Regulator 2 Switch Node Connection to the Inductor. This pin swings from VIN to GND.", 8 PGOOD2 (oc) "Open-Drain Logic Output. PGOOD2 is pulled to ground the voltage on the VFB2 pin is not within power good threshold.", 9 RUN2 (in) "Regulator 2 Enable. Forcing this pin to VIN enables regulator 2, while forcing it to GND causes regulator 2 to shut down.", 10 VFB2 (in) "Regulator 2 Output Feedback. Receives the feedback voltage from the external resistive divider across the regulator 2 output. Nominal voltage for this pin is 0.6V.", 11 EP (power) "Ground. Bottom Exposed Pad. Connect to the (-) terminal of COUT, and the (-) terminal of CIN. The Exposed Pad must be soldered to PCB."

## LTC3619IMSE#PBF
designator U?
400 mA / 800 mA Synchronous Step-Down DC/DC with Average Input Current Limit, 2.5 to 5.5 V Vin, 5 V Vout MAX, 10-pin SOP (MSE-10-EDP), -40 to 125 degC, Pb-Free; Manufacturer: Linear Technology; PartNumber: LTC3619IMSE#PBF; Topology: Buck; DatasheetVersion: Rev. A; PackageVersion: Rev. I, 05/2013; PackageReference: MSE-10; PackageDescription: 10-Pin Plastic MSOP, Exposed Die Pad, Body 3 x 3 mm, Pitch 0.5 mm; Supplier 1: Digi-Key; Supplier Part Number 1: LTC3619IMSE#PBF-ND; RoHS: TRUE; Mounting Technology: Surface Mount; ComponentLink1Description: Manufacturer URL; ComponentLink1URL: http://www.linear.com/; ComponentLink2Description: Datasheet; ComponentLink2URL: http://cds.linear.com/docs/en/datasheet/3619fa.pdf; ComponentLink3Description: Package Specification; ComponentLink3URL: http://cds.linear.com/docs/en/packaging/05081664_I_MSE.pdf
footprint LT-MSE-10-EDP_N (SOP, 10-Leads, Body 3.1x3.1mm, Pitch 0.5mm, Thermal Pad 1.88x1.68mm, IPC Medium Density)
footprint LT-MSE-10-EDP_L (SOP, 10-Leads, Body 3.1x3.1mm, Pitch 0.5mm, Thermal Pad 1.88x1.68mm, IPC High Density)
footprint LT-MSE-10-EDP_M (SOP, 10-Leads, Body 3.1x3.1mm, Pitch 0.5mm, Thermal Pad 1.88x1.68mm, IPC Low Density)
pins: 1 VFB1 (in) "Regulator 1 Output Feedback. Receives the feedback voltage from the external resistive divider across the regulator 1 output. Nominal voltage for this pin is 0.6V.", 2 RUN1 (in) "Regulator 1 Enable. Forcing this pin to VIN enables regulator 1, while forcing it to GND causes regulator 1 to shut down.", 3 RLIM (in) "Average Input Current Limit Program Pin. Place a resistor and capacitor in parallel from this pin to ground.", 4 PGOOD1 (oc) "Open-Drain Logic Output. PGOOD1 is pulled to ground the voltage on the VFB1 pin is not within power good threshold.", 5 SW1 (power) "Regulator 1 Switch Node Connection to the Inductor. This pin swings from VIN to GND.", 6 VIN (power) "Main Power Supply. Must be closely de-coupled to GND.", 7 SW2 (power) "Regulator 2 Switch Node Connection to the Inductor. This pin swings from VIN to GND.", 8 PGOOD2 (oc) "Open-Drain Logic Output. PGOOD2 is pulled to ground the voltage on the VFB2 pin is not within power good threshold.", 9 RUN2 (in) "Regulator 2 Enable. Forcing this pin to VIN enables regulator 2, while forcing it to GND causes regulator 2 to shut down.", 10 VFB2 (in) "Regulator 2 Output Feedback. Receives the feedback voltage from the external resistive divider across the regulator 2 output. Nominal voltage for this pin is 0.6V.", 11 EP (power) "Ground. Bottom Exposed Pad. Connect to the (-) terminal of COUT, and the (-) terminal of CIN. The Exposed Pad must be soldered to PCB."

## LTC3619IMSE#TRPBF
designator U?
400 mA / 800 mA Synchronous Step-Down DC/DC with Average Input Current Limit, 2.5 to 5.5 V Vin, 5 V Vout MAX, 10-pin SOP (MSE-10-EDP), -40 to 125 degC, Pb-Free, Tape and Reel; Manufacturer: Linear Technology; PartNumber: LTC3619IMSE#TRPBF; Output Current(A): 0.4 or 0.8; Topology: Buck; DatasheetVersion: Rev. A; PackageVersion: Rev. I, 05/2013; PackageReference: MSE-10; PackageDescription: 10-Pin Plastic MSOP, Exposed Die Pad, Body 3 x 3 mm, Pitch 0.5 mm; Supplier 1: Digi-Key; Supplier Part Number 1: LTC3619IMSE#TRPBF-ND; Packing: Tape and Reel; RoHS: TRUE; Mounting Technology: Surface Mount; ComponentLink1Description: Manufacturer URL; ComponentLink1URL: http://www.linear.com/; ComponentLink2Description: Datasheet; ComponentLink2URL: http://cds.linear.com/docs/en/datasheet/3619fa.pdf; ComponentLink3Description: Package Specification; ComponentLink3URL: http://cds.linear.com/docs/en/packaging/05081664_I_MSE.pdf
footprint LT-MSE-10-EDP_N (SOP, 10-Leads, Body 3.1x3.1mm, Pitch 0.5mm, Thermal Pad 1.88x1.68mm, IPC Medium Density)
footprint LT-MSE-10-EDP_L (SOP, 10-Leads, Body 3.1x3.1mm, Pitch 0.5mm, Thermal Pad 1.88x1.68mm, IPC High Density)
footprint LT-MSE-10-EDP_M (SOP, 10-Leads, Body 3.1x3.1mm, Pitch 0.5mm, Thermal Pad 1.88x1.68mm, IPC Low Density)
pins: 1 VFB1 (in) "Regulator 1 Output Feedback. Receives the feedback voltage from the external resistive divider across the regulator 1 output. Nominal voltage for this pin is 0.6V.", 2 RUN1 (in) "Regulator 1 Enable. Forcing this pin to VIN enables regulator 1, while forcing it to GND causes regulator 1 to shut down.", 3 RLIM (in) "Average Input Current Limit Program Pin. Place a resistor and capacitor in parallel from this pin to ground.", 4 PGOOD1 (oc) "Open-Drain Logic Output. PGOOD1 is pulled to ground the voltage on the VFB1 pin is not within power good threshold.", 5 SW1 (power) "Regulator 1 Switch Node Connection to the Inductor. This pin swings from VIN to GND.", 6 VIN (power) "Main Power Supply. Must be closely de-coupled to GND.", 7 SW2 (power) "Regulator 2 Switch Node Connection to the Inductor. This pin swings from VIN to GND.", 8 PGOOD2 (oc) "Open-Drain Logic Output. PGOOD2 is pulled to ground the voltage on the VFB2 pin is not within power good threshold.", 9 RUN2 (in) "Regulator 2 Enable. Forcing this pin to VIN enables regulator 2, while forcing it to GND causes regulator 2 to shut down.", 10 VFB2 (in) "Regulator 2 Output Feedback. Receives the feedback voltage from the external resistive divider across the regulator 2 output. Nominal voltage for this pin is 0.6V.", 11 EP (power) "Ground. Bottom Exposed Pad. Connect to the (-) terminal of COUT, and the (-) terminal of CIN. The Exposed Pad must be soldered to PCB."

## LTC3625EDE#PBF
designator U?
1 A High Efficiency 2-Cell Supercapacitor Charger with Automatic Cell Balancing, 2.7 to 5.5 V Vin, 12-pin SON (DE-12), -40 to 125 degC, Pb-Free; Manufacturer: Linear Technology; PartNumber: LTC3625EDE#PBF; Output Current(A): 1; Topology: Buck, Boost; PackageVersion: Rev. D, 06/2010; PackageReference: DE-12; PackageDescription: 12-Pin Plastic DFN, Body 4 x 3 mm, Pitch 0.5 mm; Supplier 1: Digi-Key; Supplier Part Number 1: LTC3625EDE#PBF-ND; Supplier 2: Farnell; Supplier Part Number 2: 2295372; Supplier 3: Newark; Supplier Part Number 3: 84R4970; RoHS: TRUE; Mounting Technology: Surface Mount; Code_JEDEC: MO-229; ComponentLink1Description: Manufacturer URL; ComponentLink1URL: http://www.linear.com/; ComponentLink2Description: Datasheet; ComponentLink2URL: http://cds.linear.com/docs/en/datasheet/3625f.pdf; ComponentLink3Description: Package Specification; ComponentLink3URL: http://cds.linear.com/docs/en/packaging/DFN_12_05-08-1695.pdf
footprint LT-DE-12-05-08-1695_V (SON, 12-Leads, Body 4x3mm, Pitch 0.5mm, Thermal Pad 3.3x1.7mm)
pins: 1 SW1 "Switch Pin for the Buck Regulator. External inductor connects between SW1 pin and VMID.", 2 VIN (power) "Input Voltage Pin. Bypass to GND with a 10uF or larger ceramic capacitor", 3 CTL (in) "Logic Input. CTL sets the charge mode of the LTC3625/LTC3625-1. A logic high at CTL programs the part to operate with a single inductor; a logic low programs the part to operate with two inductors. In the 2-inductor (See Datasheet)", 4 VSEL (in) "Logic Input. VSEL selects the output voltage of the LTC3625/LTC3625-1. A logic low at VSEL sets the per-cell maximum voltage to 2.45V/2.05V (VOUT = 4.8V/4.0V); a logic high sets the per-cell maximum voltage to 2.70V/2.30V (See Datasheet)", 5 EN (in) "Logic Input. Enables the LTC3625/LTC3625-1. Active high. Has a 4.5Mohm internal pull-down resistor.", 6 PROG (in) "Charge Current Program Pin. Connecting a resistor from PROG to ground programs the buck output current. This pin servos to 1.2V.", 7 PFI (in) "Input to the Power Fail Comparator. This pin connects to an external resistor divider between VIN and GND. If this functionality is not desired, PFI should be tied to VIN", 8 ~{PFO} (hiz) "Open-Drain Output of the Power-Fail Comparator. The part pulls this pin low if VIN is less than a value programmed by an external divider. This pin is active low in shutdown mode. If this functionality is not desired P\F\O\ (See Datasheet)", 9 PGOOD (hiz) "Logic Output. This is an open-drain output which indicates that VOUT has settled to its final value. Upon start-up, this pin remains low until the output voltage, VOUT , is within 92.5% (typical) of its final value. Once (See Datasheet)", 10 VMID (in) "Midpoint of Two Series Supercapacitors. The pin voltage is monitored and used, along with VOUT , to enable or shut down the buck and boost converters during charging to achieve voltage balancing of the top and bottom (See Datasheet)", 11 VOUT (power) "Output Voltage Pin. Connect VOUT to the positive terminal of the top supercapacitor. The pin voltage is monitored and used, along with VMID, to enable or shut down the buck and boost converters during charging to achieve (See Datasheet)", 12 SW2 "Switch Pin for the Boost Regulator. External inductor connects between the SW2 pin and VMID. If CTL is logic high, then SW2 must be connected to SW1.", 13 EP (power) "Ground. The exposed pad must be connected to a continuous ground plane on the printed circuit board directly under the LTC3625/ LTC3625-1 for electrical contact and to achieve rated thermal performance."